# EAGLE library part TPS63002 (library Alberto)
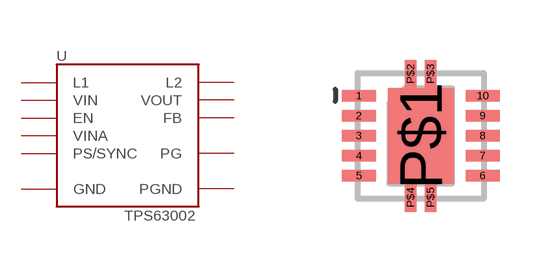
[diagram p5: symbol with the pads of VFDFN-10; footprint VFDFN-10]

Designator prefix -

## TPS63002  [VFDFN-10]
1  VOUT  out
2  L2  pas
3  PGND  pwr
4  L1  pas
5  VIN  pwr
6  EN
7  PS/SYNC  in
8  VINA  pwr
9  GND  pwr
10  FB  in
P$1  PG  out
P$2  PG  out
P$3  PG  out
P$4  PG  out
P$5  PG  out

## Footprint VFDFN-10 (pad centres in mm)
smd 0.85 x 0.28: 1 -1.55,1; 2 -1.55,0.5; 3 -1.55,0; 4 -1.55,-0.5; 5 -1.55,-1; 6 1.55,-1; 7 1.55,-0.5; 8 1.55,0; 9 1.55,0.5; 10 1.55,1
smd 1.65 x 2.4: P$1 0,0
smd 0.28 x 0.7: P$2 -0.25,1.55; P$3 0.25,1.55; P$4 -0.25,-1.55; P$5 0.25,-1.55